# EAGLE library part LM324ADR (library SamacSys_Parts)
LM324ADR, Quad Operational Amplifier 1.2MHz 5 to 28V, 14-Pin SOIC Source: Datasheet <http://www.ti.com/lit/ds/symlink/lm324a.pdf>
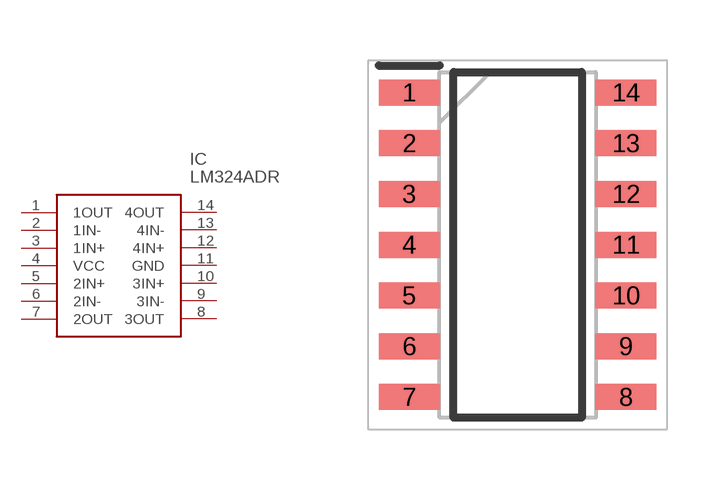
[diagram p1: symbol with the pads of SOIC127P600X175-14N; footprint SOIC127P600X175-14N]

Designator prefix IC

## LM324ADR (DESCRIPTION: LM324ADR, Quad Operational Amplifier 1.2MHz 5 to 28V, 14-Pin SOIC; HEIGHT: 1.75mm; MANUFACTURER_NAME: Texas Instruments; MANUFACTURER_PART_NUMBER: LM324ADR; MOUSER_PART_NUMBER: 595-LM324ADR; MOUSER_PRICE-STOCK: https://www.mouser.co.uk/ProductDetail/Texas-Instruments/LM324ADR?qs=j01uVdFEFjGTgJsnyinRPw%3D%3D)  [SOIC127P600X175-14N]
1  1OUT
2  1IN-
3  1IN+
4  VCC
5  2IN+
6  2IN-
7  2OUT
8  3OUT
9  3IN-
10  3IN+
11  GND
12  4IN+
13  4IN-
14  4OUT

## Footprint SOIC127P600X175-14N (pad centres in mm)
D (-R-PDSO-G14)
smd 1.525 x 0.65: 1 -2.712,3.81; 2 -2.712,2.54; 3 -2.712,1.27; 4 -2.712,0; 5 -2.712,-1.27; 6 -2.712,-2.54; 7 -2.712,-3.81; 8 2.712,-3.81; 9 2.712,-2.54; 10 2.712,-1.27; 11 2.712,0; 12 2.712,1.27; 13 2.712,2.54; 14 2.712,3.81